# Altium footprint library AngleVu.PcbLib: 74 footprints (part 1 of 5)
Each footprint in its own frame and in the unit in brackets; x right, y up, seen from the top. Pads: shape width x height; smd on the part's side, far side on the other; paste and mask are expansions set on the pad; w line width, h text height; cw(c..) or ccw(c..) is an arc to the next point about the centre after c.
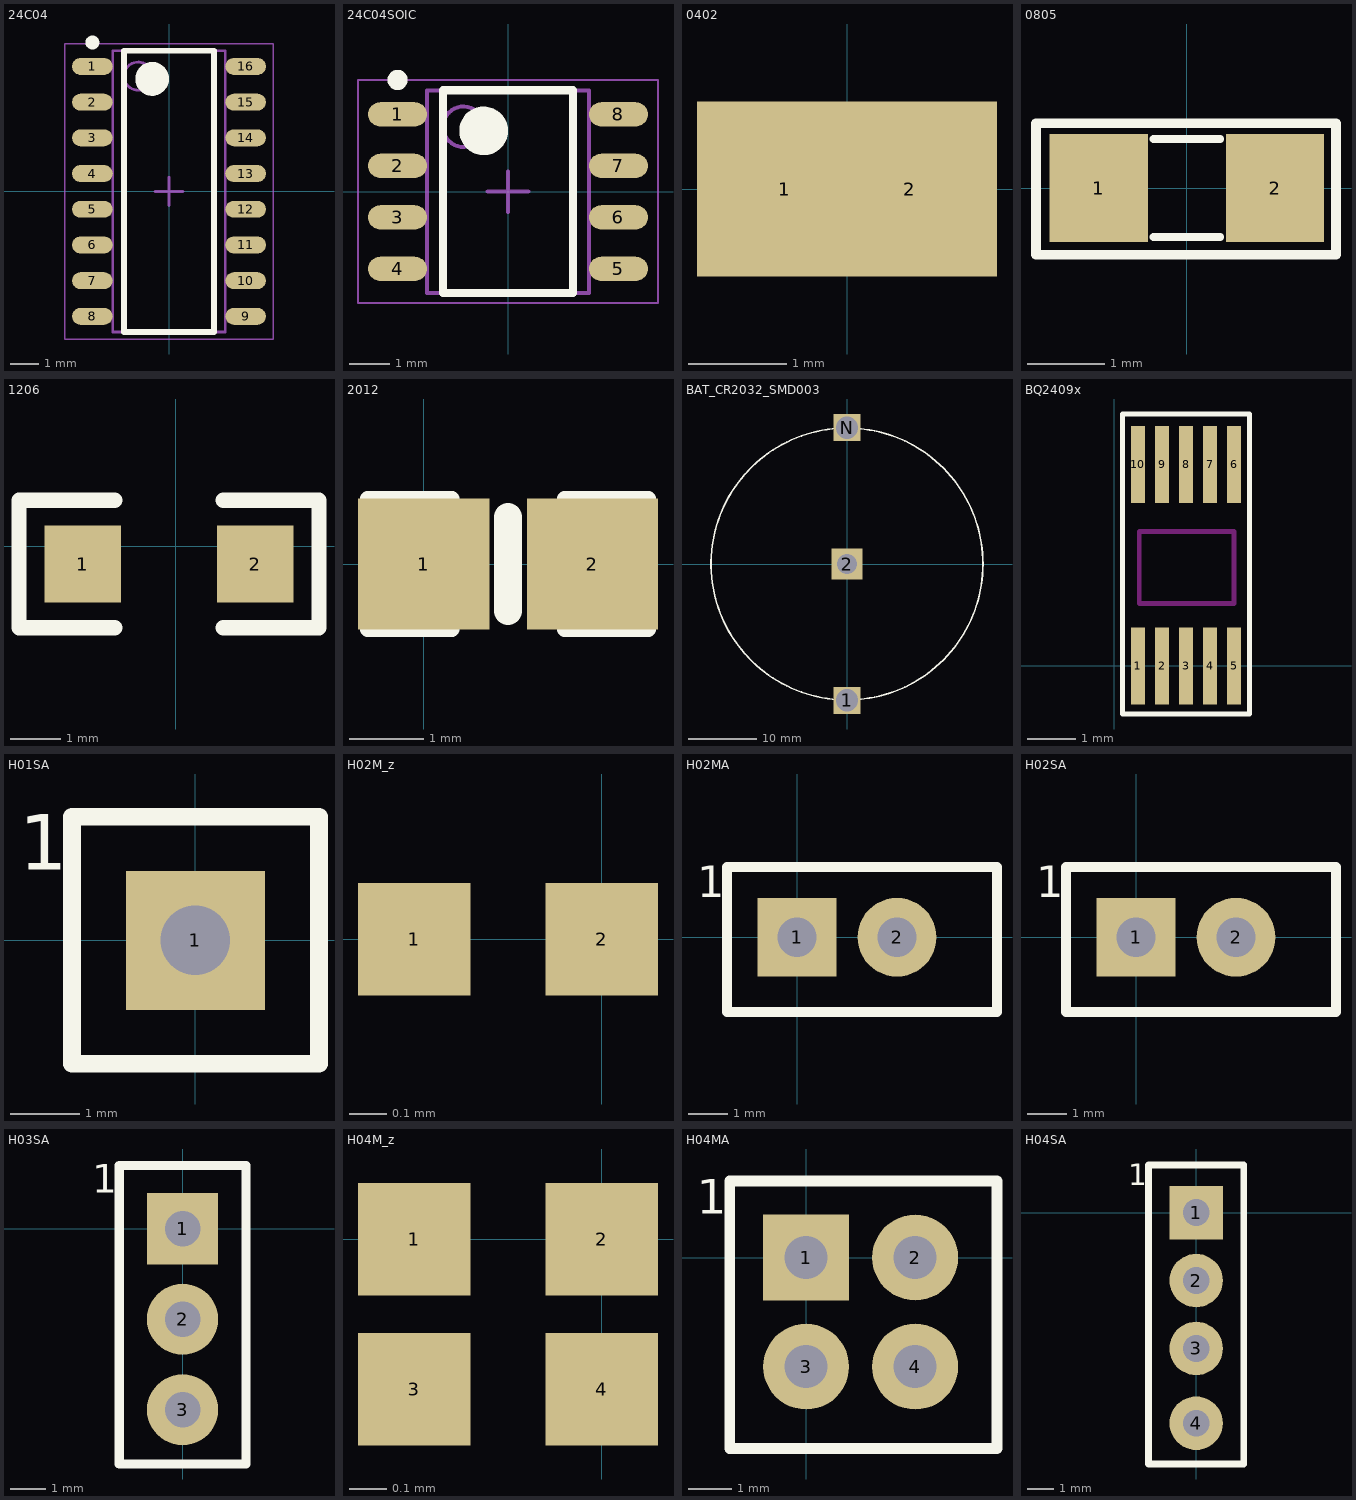
[diagram p0: the footprints below, top view; thin cyan lines are the x and y axes]

## 24C04 [mm] "Epprom24"
height 1.75
pads (16):
  oval 1.45x0.6 smd: 1(-2.725,4.445) 2(-2.725,3.175) 3(-2.725,1.905) 4(-2.725,0.635) 5(-2.725,-0.635) 6(-2.725,-1.905) 7(-2.725,-3.175) 8(-2.725,-4.445) 9(2.725,-4.445) 10(2.725,-3.175) 11(2.725,-1.905) 12(2.725,-0.635) 13(2.725,0.635) 14(2.725,1.905) 15(2.725,3.175) 16(2.725,4.445)
Top Overlay:
  circle w0.6: c-0.6,4 r0.3
  circle w0.25: c-2.725,5.295 r0.125
  lines w0.2: -1.6,-5 1.6,-5 1.6,5 -1.6,5 -1.6,-5
Mechanical 13:
  circle w0.1: c-1.1,4.1 r0.5
  lines w0.1: -2,-5 2,-5 2,5 -2,5 -2,-5
Mechanical 15:
  lines w0.05: -3.7,-5.25 3.7,-5.25 3.7,5.25 -3.7,5.25 -3.7,-5.25
  lines w0.1: -0.5,0 0.5,0 ; 0,-0.5 0,0.5
3D body: height 1.75, standoff 0.2, extent -2,-5 2,5

## 24C04SOIC [mm]
height 1.35
pads (8):
  oval 1.45x0.6 smd: 1(-2.725,1.905) 2(-2.725,0.635) 3(-2.725,-0.635) 4(-2.725,-1.905) 5(2.725,-1.905) 6(2.725,-0.635) 7(2.725,0.635) 8(2.725,1.905)
Top Overlay:
  circle w0.25: c-2.725,2.755 r0.125
  circle w0.6: c-0.6,1.5 r0.3
  lines w0.2: -1.6,-2.5 -1.6,2.5 1.6,2.5 1.6,-2.5 -1.6,-2.5
Mechanical 13:
  circle w0.1: c-1.1,1.6 r0.5
  lines w0.1: -2,-2.5 -2,2.5 2,2.5 2,-2.5 -2,-2.5
Mechanical 15:
  lines w0.05: -3.7,-2.75 -3.7,2.75 3.7,2.75 3.7,-2.75 -3.7,-2.75
  lines w0.1: -0.5,0 0.5,0 ; 0,-0.5 0,0.5
3D body: height 1.35, standoff 0.1, extent -2,-2.5 2,2.5

## 0402 [mil]
pads (2):
  rect 70x70 smd: 1(-25,0) 2(25,0)
Top Overlay:
  lines w4: -41.25,-9.25 -41.25,9.75 -37.5,13.5 41.25,13.5 41.25,-13.5 -37,-13.5 -41.25,-9.25

## 0805 [mil] "Compoment SMD 80x50mil"
height 50
pads (2):
  rect 50x55 smd: 1(-45,0) 2(45,0)
Top Overlay:
  lines w4: -17,-25 17,-25 ; -17,25 17,25
  lines w5: -77,-34 -77,33 76,33 76,-34 -77,-34
3D body "SW3dPS-smt_resistor_packages.STEP": height 24.02, standoff -0.39, extent -39.76,-27 39.77,23

## 1206 [mil]
pads (2):
  rect 60x60 smd: 1(-72.68,-13.74) 2(62.32,-13.74)
Top Overlay:
  lines w12: -47.68,-63.74 -122.68,-63.74 -122.68,36.26 -47.68,36.26 ; 37.32,-63.74 112.32,-63.74 112.32,36.26 37.32,36.26

## 2012 [mil]
pads (2):
  rect 70x70 smd: 1(0,0) 2(90,0)
Top Overlay:
  lines w8: 15,-35 -30,-35 -30,35 15,35 ; 75,-35 120,-35 120,35 75,35
  lines w15: 45,-25 45,25

## BAT_CR2032_SMD003 [mm]
pads (3):
  rect 4x4 hole 3.3: 1(0,-20.066) N(0,20.066)
  rect 4.5x4.5 hole 3: 2(0,0)
Top Overlay:
  circle w0.254: c0,0 r20

## BQ2409x [mm]
pads (10):
  rect 0.3x1.6 smd: 1(0.5,0) 2(1,0) 3(1.5,0) 4(2,0) 5(2.5,0) 6(2.5,4.2) 7(2,4.2) 8(1.5,4.2) 9(1,4.2) 10(0.5,4.2)
Top Overlay:
  lines w0.1: 0.175,-1 2.825,-1 2.825,5.25 0.175,5.25 0.175,-1
Keep-Out Layer:
  lines w0.1: 0.525,1.3 0.525,2.8 1.7,2.8 2.5,2.8 2.5,1.3 0.525,1.3

## H01SA [mm] "HEADER, SINGLE, DISTANCE = 100mil"
pads (1):
  rect 2x2 hole 1: 1(0,0)
Top Overlay:
  lines w0.254: -1.778,-1.778 1.778,-1.778 1.778,1.778 -1.778,1.778 -1.778,-1.778
  text "1" at -2.54,1.016 h0.8

## H02M_z [mm]
pads (2):
  rect 0.3x0.3 smd: 1(-0.5,0) 2(0,0)

## H02MA [mm] "HEADER, SINGLE, DISTANCE = 100mil"
pads (2):
  rect 2x2 hole 1: 1(0,0)
  round 2 hole 1: 2(2.54,0)
Top Overlay:
  lines w0.254: -1.778,-1.905 -1.778,1.778 5.08,1.778 5.08,-1.905 -1.778,-1.905
  text "1" at -2.54,1.016 h0.8

## H02SA [mm] "HEADER, SINGLE, DISTANCE = 100mil"
pads (2):
  rect 2x2 hole 1: 1(0,0)
  round 2 hole 1: 2(2.54,0)
Top Overlay:
  lines w0.254: -1.778,-1.905 -1.778,1.778 5.08,1.778 5.08,-1.905 -1.778,-1.905
  text "1" at -2.54,1.016 h0.8

## H03SA [mm] "HEADER, SINGLE, DISTANCE = 100mil"
pads (3):
  rect 2x2 hole 1: 1(0,0)
  round 2 hole 1: 2(0,-2.54) 3(0,-5.08)
Top Overlay:
  lines w0.254: -1.778,-6.604 -1.778,1.778 1.778,1.778 1.778,-6.604 -1.778,-6.604
  text "1" at -2.54,1.016 h0.8

## H04M_z [mm]
pads (4):
  rect 0.3x0.3 smd: 1(-0.5,0) 2(0,0) 3(-0.5,-0.4) 4(0,-0.4)

## H04MA [mm] "HEADER, DOUBLE, DISTANCE = 100mil"
pads (4):
  rect 2x2 hole 1: 1(0,0)
  round 2 hole 1: 2(2.54,0) 3(0,-2.54) 4(2.54,-2.54)
Top Overlay:
  lines w0.254: -1.778,-4.445 4.445,-4.445 4.445,1.778 -1.778,1.778 -1.778,-4.445
  text "1" at -2.54,1.016 h0.8

## H04SA [mm] "HEADER, SINGLE, DISTANCE = 100mil"
pads (4):
  rect 2x2 hole 1: 1(0,0)
  round 2 hole 1: 2(0,-2.54) 3(0,-5.08) 4(0,-7.874)
Top Overlay:
  lines w0.254: -1.778,-9.398 -1.778,1.778 1.778,1.778 1.778,-9.398 -1.778,-9.398
  text "1" at -2.54,1.016 h0.8